# EAGLE library part 3PDT_SWITCH (library eDNA)
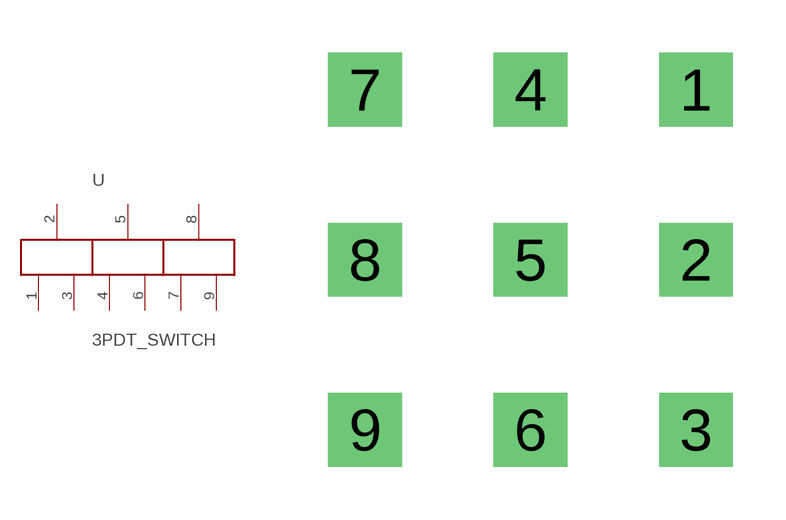
[diagram p4: symbol with the pads of 3PDT_SWITCH_SMD; footprint 3PDT_SWITCH_SMD]

Designator prefix -

## 3PDT_SWITCH  [3PDT_SWITCH_SMD]
1  1
2  2
3  3
4  4
5  5
6  6
7  7
8  8
9  9

## Footprint 3PDT_SWITCH_SMD (pad centres in mm)
drill 1.4 square: 1 4.7,4.83; 2 4.7,0; 3 4.7,-4.83; 4 0,4.83; 5 0,0; 6 0,-4.83; 7 -4.7,4.83; 8 -4.7,0; 9 -4.7,-4.83